# EAGLE library part PE2459 (library GTA04b7)
Peregrine PE4259 SPDT High Power UltraCMOS? 10 MHz ? 3.0 GHz RF Switch
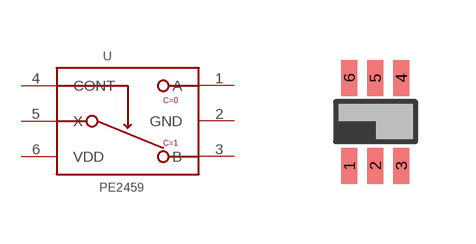
[diagram p33: symbol with the pads of SC70-6; footprint SC70-6]

Designator prefix -

## PE2459  [SC70-6]
1  A
2  GND  pwr
3  B
4  CONT  in
5  X
6  VDD  pwr

## Footprint SC70-6 (pad centres in mm)
SC70-6
smd 0.4 x 0.9: 1 -0.65,-1.1; 2 0,-1.1; 3 0.65,-1.1; 4 0.65,1.1; 5 0,1.1; 6 -0.65,1.1